# Altium footprint library 专用A.PcbLib: 94 footprints (part 3 of 6)
Each footprint in its own frame and in the unit in brackets; x right, y up, seen from the top. Pads: shape width x height; smd on the part's side, far side on the other; paste and mask are expansions set on the pad; w line width, h text height; cw(c..) or ccw(c..) is an arc to the next point about the centre after c.
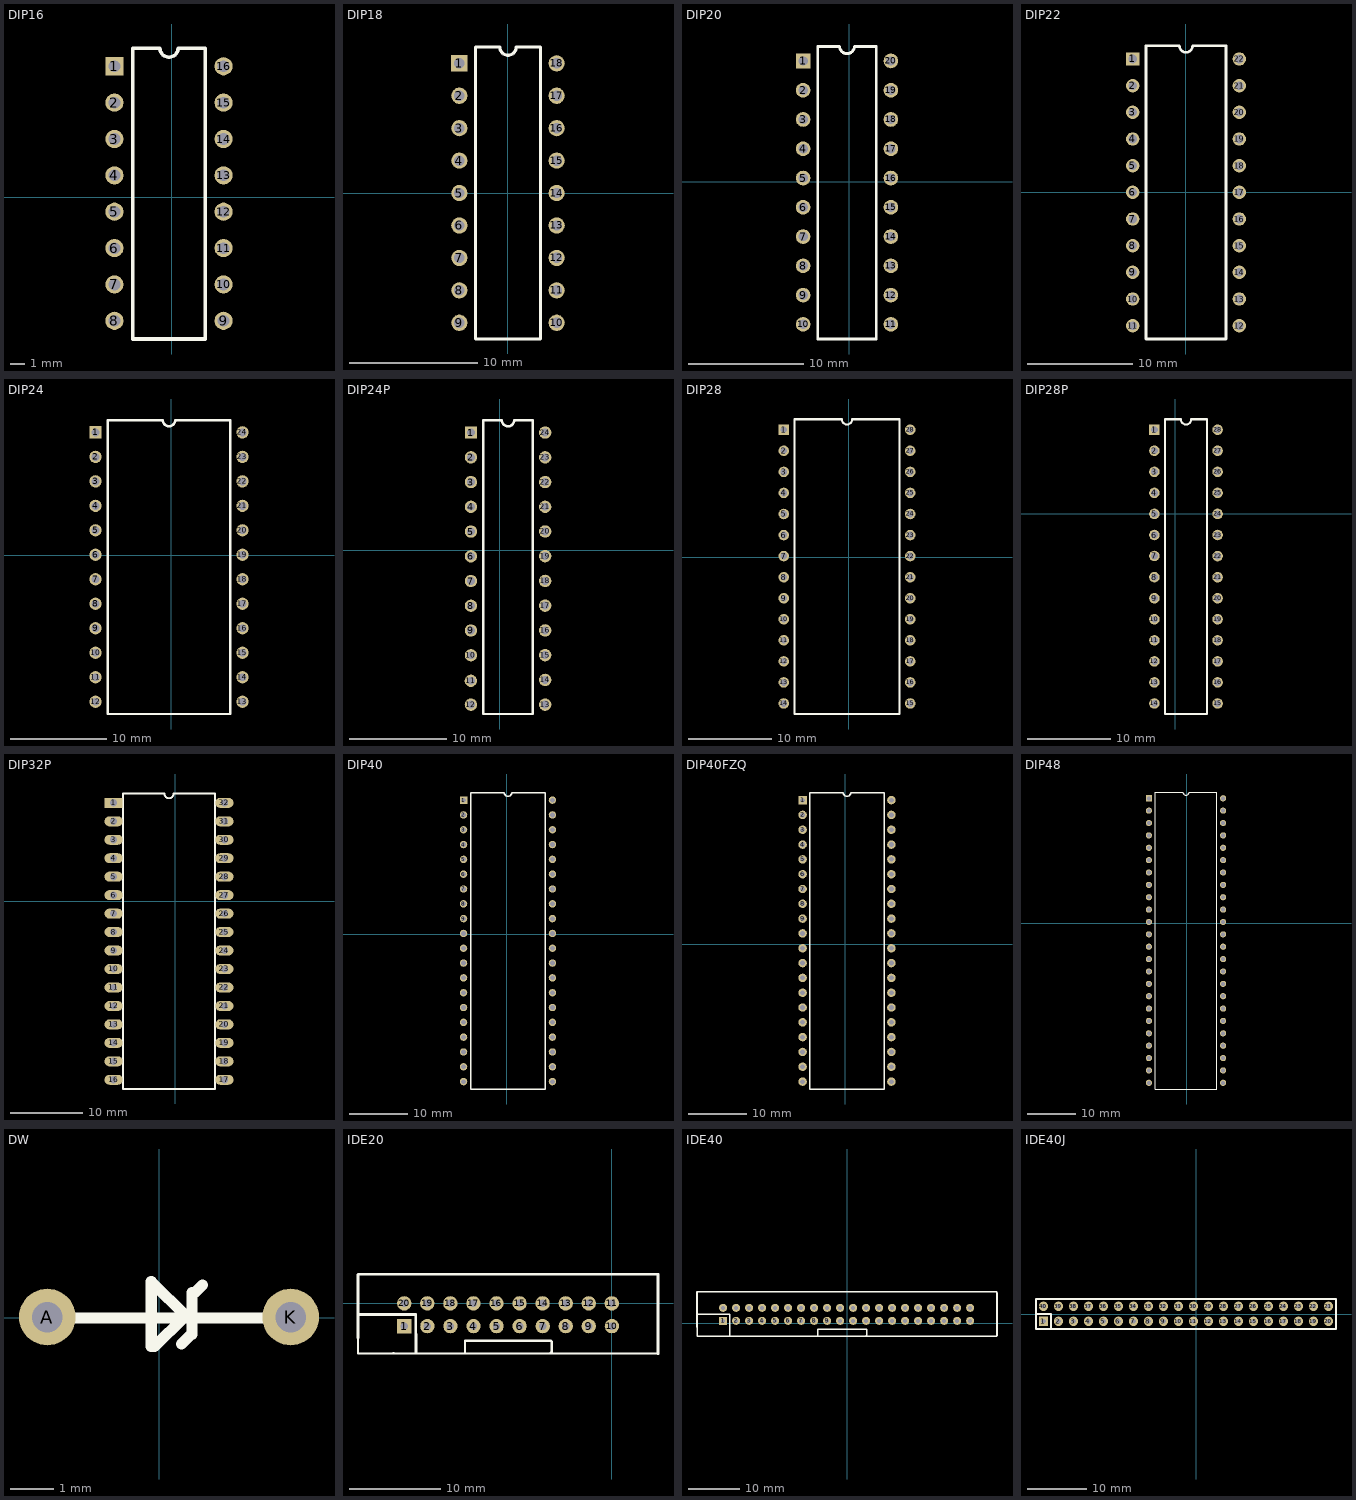
[diagram p2: the footprints below, top view; thin cyan lines are the x and y axes]

## DIP16 [mil]
pads (16):
  rect 50x50 hole 32: 1(-157.01,360.08)
  round 50 hole 32: 2(-157.01,260.08) 3(-157.01,160.08) 4(-157.01,60.08) 5(-157.01,-39.92) 6(-157.01,-139.92) 7(-157.01,-239.92) 8(-157.01,-339.92) 9(142.99,-339.92) 10(142.99,-239.92) 11(142.99,-139.92) 12(142.99,-39.92) 13(142.99,60.08) 14(142.99,160.08) 15(142.99,260.08) 16(142.99,360.08)
TopOverlay:
  lines w10: -107.01,-389.92 92.99,-389.92 92.99,410.08 17.99,410.08 cw(c-7.01,410.08) -32.01,410.08 -107.01,410.08 -107.01,-389.92

## DIP18 [mil]
pads (18):
  rect 50x50 hole 32: 1(-149.37,401.02)
  round 50 hole 32: 2(-149.37,301.02) 3(-149.37,201.02) 4(-149.37,101.02) 5(-149.37,1.02) 6(-149.37,-98.98) 7(-149.37,-198.98) 8(-149.37,-298.98) 9(-149.37,-398.98) 10(150.63,-398.98) 11(150.63,-298.98) 12(150.63,-198.98) 13(150.63,-98.98) 14(150.63,1.02) 15(150.63,101.02) 16(150.63,201.02) 17(150.63,301.02) 18(150.63,401.02)
TopOverlay:
  lines w10: -99.37,-448.98 100.63,-448.98 100.63,451.02 25.63,451.02 cw(c0.63,451.02) -24.37,451.02 -99.37,451.02 -99.37,-448.98

## DIP20 [mil]
pads (20):
  rect 50x50 hole 32: 1(-157.72,413.46)
  round 50 hole 32: 2(-157.72,313.46) 3(-157.72,213.46) 4(-157.72,113.46) 5(-157.72,13.46) 6(-157.72,-86.54) 7(-157.72,-186.54) 8(-157.72,-286.54) 9(-157.72,-386.54) 10(-157.72,-486.54) 11(142.28,-486.54) 12(142.28,-386.54) 13(142.28,-286.54) 14(142.28,-186.54) 15(142.28,-86.54) 16(142.28,13.46) 17(142.28,113.46) 18(142.28,213.46) 19(142.28,313.46) 20(142.28,413.46)
TopOverlay:
  lines w10: -107.72,-536.54 92.28,-536.54 92.28,463.46 17.28,463.46 cw(c-7.72,463.46) -32.72,463.46 -107.72,463.46 -107.72,-536.54

## DIP22 [mil]
pads (22):
  rect 50x50 hole 32: 1(-199.29,499.29)
  round 50 hole 32: 2(-199.29,399.29) 3(-199.29,299.29) 4(-199.29,199.29) 5(-199.29,99.29) 6(-199.29,-0.71) 7(-199.29,-100.71) 8(-199.29,-200.71) 9(-199.29,-300.71) 10(-199.29,-400.71) 11(-199.29,-500.71) 12(200.71,-500.71) 13(200.71,-400.71) 14(200.71,-300.71) 15(200.71,-200.71) 16(200.71,-100.71) 17(200.71,-0.71) 18(200.71,99.29) 19(200.71,199.29) 20(200.71,299.29) 21(200.71,399.29) 22(200.71,499.29)
TopOverlay:
  lines w10: -149.29,-550.71 -149.29,549.29 -24.29,549.29 ccw(c0.71,549.29) 25.71,549.29 150.71,549.29 150.71,-550.71 -149.29,-550.71

## DIP24 [mil]
pads (24):
  rect 50x50 hole 32: 1(-308.19,501.89)
  round 50 hole 32: 2(-308.19,401.89) 3(-308.19,301.89) 4(-308.19,201.89) 5(-308.19,101.89) 6(-308.19,1.89) 7(-308.19,-98.11) 8(-308.19,-198.11) 9(-308.19,-298.11) 10(-308.19,-398.11) 11(-308.19,-498.11) 12(-308.19,-598.11) 13(291.81,-598.11) 14(291.81,-498.11) 15(291.81,-398.11) 16(291.81,-298.11) 17(291.81,-198.11) 18(291.81,-98.11) 19(291.81,1.89) 20(291.81,101.89) 21(291.81,201.89) 22(291.81,301.89) 23(291.81,401.89) 24(291.81,501.89)
TopOverlay:
  lines w10: -258.19,-648.11 241.81,-648.11 241.81,551.89 16.81,551.89 cw(c-8.19,551.89) -33.19,551.89 -258.19,551.89 -258.19,-648.11

## DIP24P [mil]
pads (24):
  rect 50x50 hole 32: 1(-116.38,475.28)
  round 50 hole 32: 2(-116.38,375.28) 3(-116.38,275.28) 4(-116.38,175.28) 5(-116.38,75.28) 6(-116.38,-24.72) 7(-116.38,-124.72) 8(-116.38,-224.72) 9(-116.38,-324.72) 10(-116.38,-424.72) 11(-116.93,-527.95) 12(-116.54,-624.41) 13(183.46,-624.41) 14(183.46,-524.41) 15(183.46,-424.41) 16(183.46,-324.41) 17(183.46,-224.41) 18(183.46,-124.41) 19(183.46,-24.41) 20(183.46,75.59) 21(183.62,175.28) 22(183.62,275.28) 23(183.62,375.28) 24(183.62,475.28)
TopOverlay:
  lines w10: -66.93,-662.2 133.07,-662.2 ; -66.93,-659.84 -66.38,525.28 8.62,525.28 ccw(c33.62,525.28) 58.62,525.28 133.62,525.28 133.86,-659.84

## DIP28 [mm]
pads (28):
  rect 1.27x1.27 hole 0.813: 1(-7.85,15.36)
  round 1.27 hole 0.813: 2(-7.85,12.82) 3(-7.85,10.28) 4(-7.85,7.74) 5(-7.85,5.2) 6(-7.85,2.66) 7(-7.85,0.12) 8(-7.85,-2.42) 9(-7.85,-4.96) 10(-7.85,-7.5) 11(-7.85,-10.04) 12(-7.85,-12.58) 13(-7.85,-15.12) 14(-7.85,-17.66) 15(7.39,-17.66) 16(7.39,-15.12) 17(7.39,-12.58) 18(7.39,-10.04) 19(7.39,-7.5) 20(7.39,-4.96) 21(7.39,-2.42) 22(7.39,0.12) 23(7.39,2.66) 24(7.39,5.2) 25(7.39,7.74) 26(7.39,10.28) 27(7.39,12.82) 28(7.39,15.36)
TopOverlay:
  lines w0.254: -6.58,-18.93 6.12,-18.93 6.12,16.63 0.405,16.63 cw(c-0.23,16.63) -0.865,16.63 -6.58,16.63 -6.58,-18.93

## DIP28P [mil]
pads (28):
  rect 50x50 hole 32: 1(-99.43,399.13)
  round 50 hole 32: 2(-99.43,299.13) 3(-99.43,199.13) 4(-99.43,99.13) 5(-99.43,-0.87) 6(-99.43,-100.87) 7(-99.5,-200.5) 8(-99.5,-301) 9(-99.43,-401.37) 10(-99.43,-501.37) 11(-99.43,-601.37) 12(-99.43,-701.37) 13(-99.43,-801.37) 14(-99.43,-901.37) 15(200.57,-901.37) 16(200.57,-801.37) 17(200.57,-701.37) 18(200.57,-601.37) 19(200.57,-501.37) 20(200.57,-401.37) 21(200.57,-301.37) 22(200.57,-200.87) 23(200.57,-100.87) 24(200.57,-0.87) 25(200.57,99.13) 26(200.57,199.13) 27(200.57,299.13) 28(200.57,399.13)
TopOverlay:
  lines w10: -49.43,-251.37 -49.43,-951.37 150.57,-951.37 150.57,-251.37 ; -49.43,-250.87 -49.43,449.13 25.57,449.13 ccw(c50.57,449.13) 75.57,449.13 150.57,449.13 150.57,-250.87

## DIP32P [mm]
pads (32):
  rect 2.5x1.38 hole 1: 1(-8.458,13.538)
  oval 2.5x1.38 hole 1: 2(-8.458,10.998) 3(-8.458,8.458) 4(-8.458,5.918) 5(-8.458,3.378) 6(-8.458,0.838) 7(-8.458,-1.702) 8(-8.458,-4.242) 9(-8.458,-6.782) 10(-8.458,-9.322) 11(-8.458,-11.862) 12(-8.458,-14.402) 13(-8.458,-16.942) 14(-8.458,-19.482) 15(-8.458,-22.022) 16(-8.458,-24.562) 17(6.782,-24.562) 18(6.782,-22.022) 19(6.782,-19.482) 20(6.782,-16.942) 21(6.782,-14.402) 22(6.782,-11.862) 23(6.782,-9.322) 24(6.782,-6.782) 25(6.782,-4.242) 26(6.782,-1.702) 27(6.782,0.838) 28(6.782,3.378) 29(6.782,5.918) 30(6.782,8.458) 31(6.782,10.998) 32(6.782,13.538)
TopOverlay:
  lines w0.254: -7.188,-25.832 -7.188,14.808 -1.473,14.808 ccw(c-0.838,14.808) -0.203,14.808 5.512,14.808 5.512,-25.832 -7.188,-25.832

## DIP40 [mm]
pads (40):
  rect 1.27x1.27 hole 0.8: 1(-7.422,22.99)
  round 1.27 hole 0.8: 2(-7.422,20.45) 3(-7.422,17.91) 4(-7.422,15.37) 5(-7.422,12.83) 6(-7.422,10.29) 7(-7.422,7.75) 8(-7.422,5.21) 9(-7.422,2.67) 10(-7.422,0.13) 11(-7.422,-2.41) 12(-7.422,-4.95) 13(-7.422,-7.49) 14(-7.422,-10.03) 15(-7.422,-12.57) 16(-7.422,-15.11) 17(-7.422,-17.65) 18(-7.422,-20.19) 19(-7.422,-22.73) 20(-7.422,-25.27) 21(7.818,-25.27) 22(7.818,-22.73) 23(7.818,-20.19) 24(7.818,-17.65) 25(7.818,-15.11) 26(7.818,-12.57) 27(7.818,-10.03) 28(7.818,-7.49) 29(7.818,-4.95) 30(7.818,-2.41) 31(7.818,0.13) 32(7.818,2.67) 33(7.818,5.21) 34(7.818,7.75) 35(7.818,10.29) 36(7.818,12.83) 37(7.818,15.37) 38(7.818,17.91) 39(7.818,20.45) 40(7.818,22.99)
TopOverlay:
  lines w0.254: -6.152,-26.54 6.548,-26.54 6.548,24.26 0.833,24.26 cw(c0.198,24.26) -0.437,24.26 -6.152,24.26 -6.152,-26.54

## DIP40FZQ [mm]
pads (40):
  rect 1.45x1.45 hole 0.8: 1(-7.295,24.73)
  round 1.45 hole 0.8: 2(-7.295,22.19) 3(-7.295,19.65) 4(-7.295,17.11) 5(-7.295,14.57) 6(-7.295,12.03) 7(-7.295,9.49) 8(-7.295,6.95) 9(-7.295,4.41) 10(-7.295,1.87) 11(-7.295,-0.67) 12(-7.295,-3.21) 13(-7.295,-5.75) 14(-7.295,-8.29) 15(-7.295,-10.83) 16(-7.295,-13.37) 17(-7.295,-15.91) 18(-7.295,-18.45) 19(-7.295,-20.99) 20(-7.295,-23.53) 21(7.945,-23.53) 22(7.945,-20.99) 23(7.945,-18.45) 24(7.945,-15.91) 25(7.945,-13.37) 26(7.945,-10.83) 27(7.945,-8.29) 28(7.945,-5.75) 29(7.945,-3.21) 30(7.945,-0.67) 31(7.945,1.87) 32(7.945,4.41) 33(7.945,6.95) 34(7.945,9.49) 35(7.945,12.03) 36(7.945,14.57) 37(7.945,17.11) 38(7.945,19.65) 39(7.945,22.19) 40(7.945,24.73)
TopOverlay:
  lines w0.254: -6.025,-24.8 6.675,-24.8 6.675,26 0.96,26 cw(c0.325,26) -0.31,26 -6.025,26 -6.025,-24.8

## DIP48 [mm]
pads (48):
  rect 1.27x1.27 hole 0.813: 1(-7.81,25.62)
  round 1.27 hole 0.813: 2(-7.81,23.08) 3(-7.81,20.54) 4(-7.81,18) 5(-7.81,15.46) 6(-7.81,12.92) 7(-7.81,10.38) 8(-7.81,7.84) 9(-7.81,5.3) 10(-7.81,2.76) 11(-7.81,0.22) 12(-7.81,-2.32) 13(-7.81,-4.86) 14(-7.81,-7.4) 15(-7.81,-9.94) 16(-7.81,-12.48) 17(-7.81,-15.02) 18(-7.81,-17.56) 19(-7.81,-20.1) 20(-7.81,-22.64) 21(-7.81,-25.18) 22(-7.81,-27.72) 23(-7.81,-30.26) 24(-7.81,-32.8) 25(7.43,-32.8) 26(7.43,-30.26) 27(7.43,-27.72) 28(7.43,-25.18) 29(7.43,-22.64) 30(7.43,-20.1) 31(7.43,-17.56) 32(7.43,-15.02) 33(7.43,-12.48) 34(7.43,-9.94) 35(7.43,-7.4) 36(7.43,-4.86) 37(7.43,-2.32) 38(7.43,0.22) 39(7.43,2.76) 40(7.43,5.3) 41(7.43,7.84) 42(7.43,10.38) 43(7.43,12.92) 44(7.43,15.46) 45(7.43,18) 46(7.43,20.54) 47(7.43,23.08) 48(7.43,25.62)
TopOverlay:
  lines w0.254: -6.54,-34.07 -6.54,26.89 -0.825,26.89 ccw(c-0.19,26.89) 0.445,26.89 6.16,26.89 6.16,-34.07 -6.54,-34.07

## DW [mm]
pads (2):
  round 1.3 hole 0.7: A(-2.566,0.02) K(3.022,0.02)
TopOverlay:
  lines w0.254: -2.62,0 3.06,0 ; -0.18,-0.66 -0.12,-0.6 ; -0.18,-0.64 -0.14,-0.58 ; -0.18,-0.6 -0.18,0.84 0.64,0.02 0.64,0 ; -0.1,-0.66 0.58,0.02 ; 0.52,-0.6 0.76,-0.36 ; 0.52,0.08 0.6,0.08 ; 0.76,-0.38 0.76,0.56 ; 0.76,0.58 0.82,0.58 1,0.76

## IDE20 [mil]
pads (20):
  rect 62x62 hole 31.94: 1(-899.87,-100.13)
  round 62 hole 31.94: 2(-799.87,-100.13) 3(-699.87,-100.13) 4(-599.87,-100.13) 5(-499.87,-100.13) 6(-399.87,-100.13) 7(-299.87,-100.13) 8(-199.87,-100.13) 9(-99.87,-100.13) 10(0.13,-100.13) 11(-0.13,-1.37) 12(-100.13,-1.37) 13(-200.13,-1.37) 14(-300.13,-1.37) 15(-400.13,-1.37) 16(-500.13,-1.37) 17(-600.13,-1.37) 18(-700.13,-1.37) 19(-800.13,-1.37) 20(-900.13,-1.37)
TopOverlay:
  lines w10: -1100.5,-149 -1100.5,-218 -1099.5,-219 -951,-219 ; -637,-218 -637,-163.5 -264,-163.5 -260,-167.5 -260,-210 -264.5,-214.5
  lines w12: -1100.5,-151 -1100.5,120.5 ; -1100.5,124 200,125 ; -1100,-49.5 -849.87,-50.13 -849.5,-214 ; -947,-218 200,-220 ; 200,-213 200,120

## IDE40 [mil]
pads (40):
  rect 62x62 hole 31.94: 1(-952.87,17.87)
  round 62 hole 31.94: 2(-852.87,17.87) 3(-752.87,17.87) 4(-652.87,17.87) 5(-552.87,17.87) 6(-452.87,17.87) 7(-352.87,17.87) 8(-252.87,17.87) 9(-152.87,17.87) 10(-52.87,17.87) 11(47.13,17.87) 12(147.13,17.87) 13(247.13,17.87) 14(347.13,17.87) 15(447.13,17.87) 16(547.13,17.87) 17(647.13,17.87) 18(747.13,17.87) 19(847.13,17.87) 20(947.13,17.87) 21(947.13,117.87) 22(847.13,117.87) 23(747.13,117.87) 24(647.13,117.87) 25(547.13,117.87) 26(447.13,117.87) 27(347.13,117.87) 28(247.13,117.87) 29(147.13,117.87) 30(47.13,117.87) 31(-52.87,117.87) 32(-152.87,117.87) 33(-252.87,117.87) 34(-352.87,117.87) 35(-452.87,117.87) 36(-552.87,117.87) 37(-652.87,117.87) 38(-752.87,117.87) 39(-852.87,117.87) 40(-952.87,117.87)
TopOverlay:
  lines w10: -1153.5,-31 -1153.5,-100 -1152.5,-101 -1004,-101 ; -226,-100 -226,-45.5 147,-45.5 151,-49.5 151,-92 146.5,-96.5
  lines w12: -1153.5,-33 -1153.5,238.5 ; -1153.5,242 1152,240.5 ; -1153,68.5 -902.87,67.87 -902.5,-96 ; -1005,-100 1150,-100 ; 1153.5,-97.5 1153.5,235.5

## IDE40J [mil]
pads (40):
  rect 62x62 hole 31.94: 1(-1018.87,-48.63)
  round 62 hole 31.94: 2(-918.87,-48.63) 3(-818.87,-48.63) 4(-718.87,-48.63) 5(-618.87,-48.63) 6(-518.87,-48.63) 7(-418.87,-48.63) 8(-318.87,-48.63) 9(-218.87,-48.63) 10(-118.87,-48.63) 11(-18.87,-48.63) 12(81.13,-48.63) 13(181.13,-48.63) 14(281.13,-48.63) 15(381.13,-48.63) 16(481.13,-48.63) 17(581.13,-48.63) 18(681.13,-48.63) 19(781.13,-48.63) 20(881.13,-48.63) 21(881.13,51.37) 22(781.13,51.37) 23(681.13,51.37) 24(581.13,51.37) 25(481.13,51.37) 26(381.13,51.37) 27(281.13,51.37) 28(181.13,51.37) 29(81.13,51.37) 30(-18.87,51.37) 31(-118.87,51.37) 32(-218.87,51.37) 33(-318.87,51.37) 34(-418.87,51.37) 35(-518.87,51.37) 36(-618.87,51.37) 37(-718.87,51.37) 38(-818.87,51.37) 39(-918.87,51.37) 40(-1018.87,51.37)
TopOverlay:
  lines w12: -1068.5,0 -968.5,0 -968.5,-100 ; -1068.5,-100 931.5,-100 931.5,100 -1068.5,100 -1068.5,-100